# Altium schematic symbol library Diodes.SchLib: 5 symbols
Pins are listed as number, name and electrical type; pins without a type are passive.

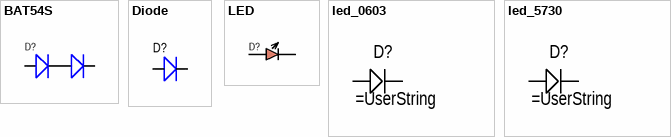
[diagram p0: symbols BAT54S to led_5730]

## BAT54S
designator D?  (value not drawn)
Small Signal Schottky Diodes (Dual Version)
footprint SOT23
pins: 1 Anode "+", 2 Cathode "-", 3 Middle "-"

## Diode
designator D?  (value not drawn)
Description: *; Type: *; VF: *; IF(AV): *; IFSM: *; VRRM: *; Tj Max: *; VF Test Current: *
footprint SOD-80
footprint SOD-123
footprint SMA (DO-214AC)
footprint SOD-323 ((SC76, UMD2,)
footprint SOD-523
pins: 1 Anode "+", 2 Cathode "-"

## LED
designator D?
SMD 0603 indicator LED; Voltage: 3.3V; UserString: 0603 3.3V; CaseType: 0603
footprint led_0603
footprint 0805_LED
pins: 1 +, 2 -

## led_0603
designator D?
SMD 0603 indicator LED; Voltage: 3.3V; UserString: 0603 3.3V; CaseType: 0603
footprint led_0603
pins: 1 +, 2 -

## led_5730
designator D?
Power SMD 5730 LED; Voltage: 3.3V; Func: 'func1'; UserString: 5730 3.3V; CaseType: 5730
footprint 5730_LED
pins: 1 +, 2 -